# EAGLE library part 236-603/000-009 (library con-wago_236)
Serie 236, Stand: 01.01.2012. Die jeweils aktuellen Daten zu diesem Artikel finden Sie in unserem Produktkatalog, den Sie unter www.wago.com einsehen können. As of: 01/01/2012. Please find the newest data for this article in our product catalogue, which can be viewed under www.wago.com.
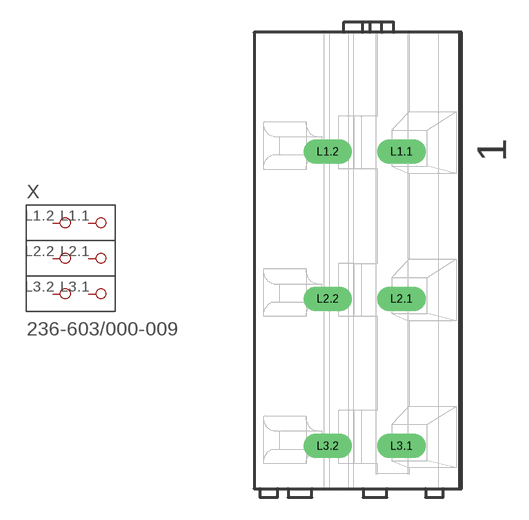
[diagram p197: symbol with the pads of P-236-603; footprint P-236-603]

Designator prefix X

## 236-603/000-009  [P-236-603]
L1.1  P1.1
L1.2  P1.2
L2.1  P2.1
L2.2  P2.2
L3.1  P3.1
L3.2  P3.2

## Footprint P-236-603 (pad centres in mm)
drill 1.1 long: L1.1 2.957,7.35; L1.2 -2.043,7.35; L2.1 2.957,-2.65; L2.2 -2.043,-2.65; L3.1 2.957,-12.65; L3.2 -2.043,-12.65